# Altium schematic symbol library 1720BL15A0100E.SchLib: 2 symbols
Pins are listed as number, name and electrical type; pins without a type are passive.

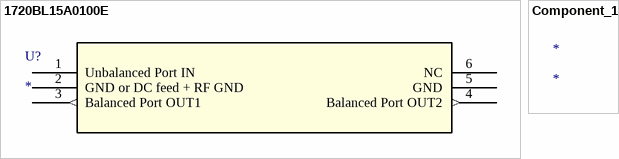
[diagram p0: symbols 1720BL15A0100E to Component_1]

## 1720BL15A0100E
designator U?
No Description Available; Mfr_Name: Johanson Technology; RefDes: RefDes; Type: Type
footprint SMT_15B0050E_JOT
pins: 1 Unbalanced Port IN, 2 GND or DC feed + RF GND (power), 3 Balanced Port OUT1 (out), 4 Balanced Port OUT2 (out), 5 GND (power), 6 NC

## Component_1
designator *